# EAGLE library part DS1302 (library Chip)
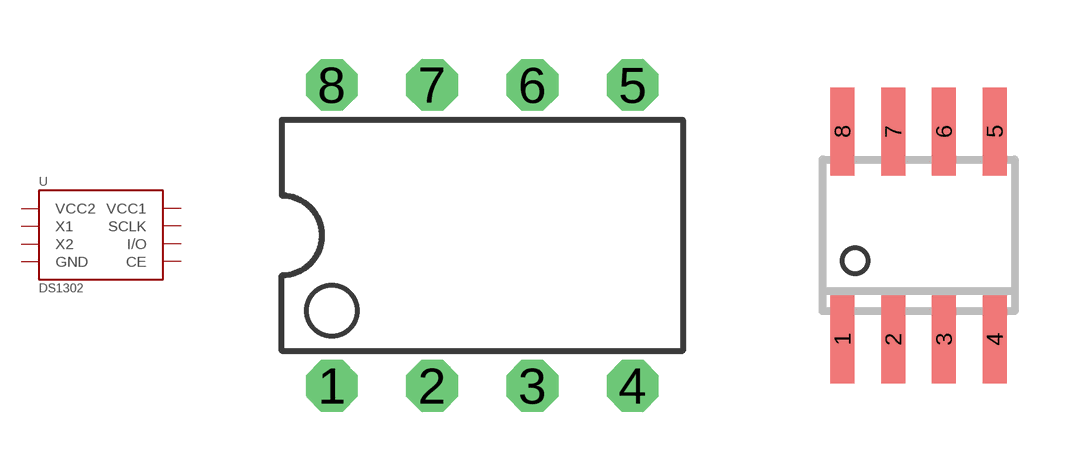
[diagram p12: symbol with the pads of DIP8; footprints DIP8, SOP8]

Designator prefix -

## DS1302DIP8  [DIP8]
1  VCC2
2  X1
3  X2
4  GND
5  CE
6  I/O
7  SCLK
8  VCC1

## DS1302SOP8  [SOP8]
Pads as for DIP8

## Footprint DIP8 (pad centres in mm)
Dual In Line Package
drill 0.8 octagon: 1 -3.81,-3.81; 2 -1.27,-3.81; 3 1.27,-3.81; 4 3.81,-3.81; 5 3.81,3.81; 6 1.27,3.81; 7 -1.27,3.81; 8 -3.81,3.81

## Footprint SOP8 (pad centres in mm)
SMALL OUTLINE INTEGRATED CIRCUIT body 3.9 mm/JEDEC MS-012AA
smd 0.6 x 2.2: 1 -1.905,-2.6; 2 -0.635,-2.6; 3 0.635,-2.6; 4 1.905,-2.6; 5 1.905,2.6; 6 0.635,2.6; 7 -0.635,2.6; 8 -1.905,2.6